# Altium schematic symbol library SchLib.SchLib: 133 symbols (part 1 of 2)
Pins are listed as number, name and electrical type; pins without a type are passive.

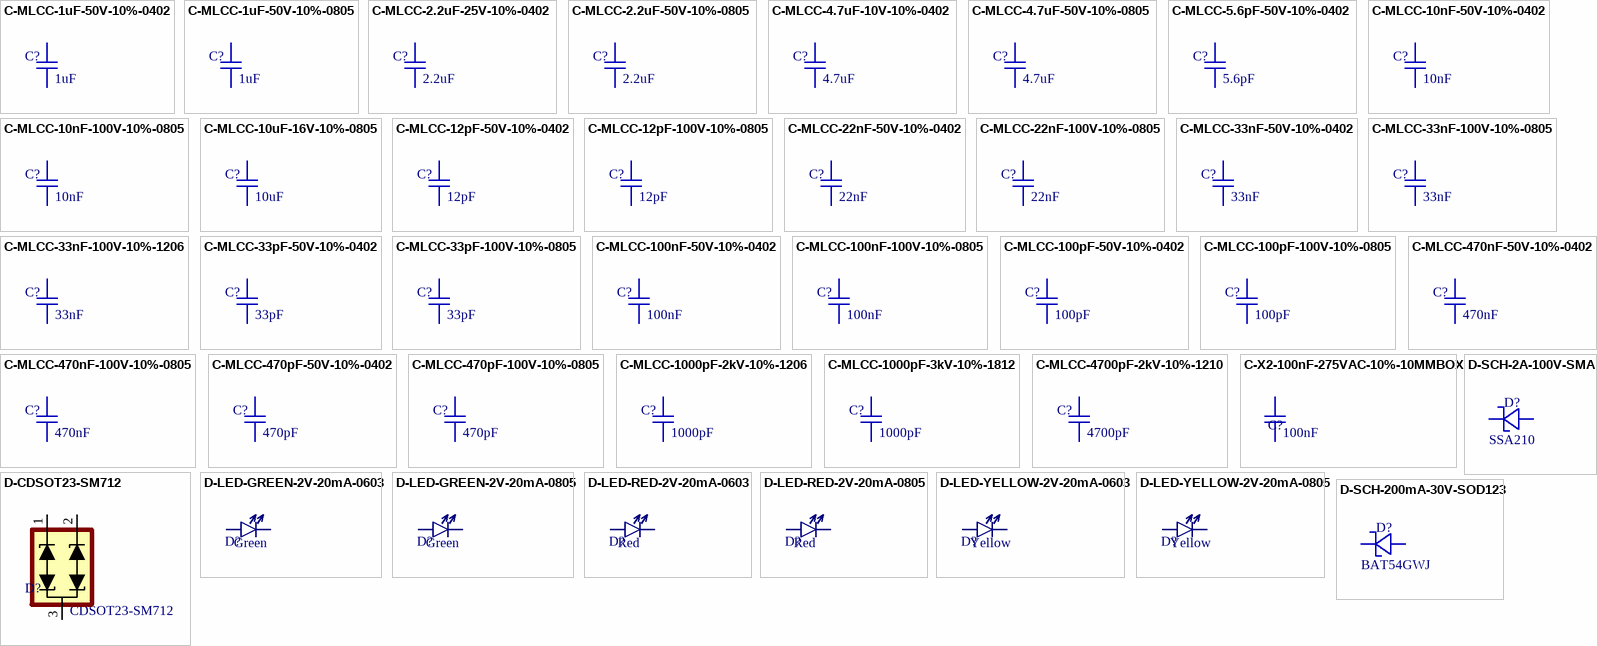
[diagram p0: symbols C-MLCC-1uF-50V-10%-0402 to D-SCH-200mA-30V-SOD123]

## C-MLCC-1uF-50V-10%-0402
designator C?, comment value 1uF  (hidden comment: Multilayer Ceramic Capacitors)
Multilayer Ceramic Capacitors MLCC - SMD/SMT 50V 1uF X5R 0402 10% HI CV; Part Number: CC0402KRX5R9BB105; Manufacturer: YAGEO; Mounting Type: SMT; Mouser Part #: 603-CC0402KX5R9BB105; Digikey Part #: 13-CC0402KRX5R9BB105CT-ND; JLCPCB Part #: C7500380
footprint CAPC1005N (Chip Capacitor, Body 1.0x0.5mm, IPC Medium Density)
pins: 1, 2

## C-MLCC-1uF-50V-10%-0805
designator C?, comment value 1uF  (hidden comment: Multilayer Ceramic Capacitors)
Multilayer Ceramic Capacitors MLCC - SMD/SMT 50V 1uF X7R 0805 10%; Part Number: CC0805KKX7R9BB105; Manufacturer: YAGEO; Mounting Type: SMT; Mouser Part #: 603-CC805KKX7R9BB105; Digikey Part #: 311-1886-1-ND; JLCPCB Part #: C91185
footprint CAPC2012N (Chip Capacitor, Body 2.0x1.3mm, IPC Medium Density)
pins: 1, 2

## C-MLCC-2.2uF-25V-10%-0402
designator C?, comment value 2.2uF  (hidden comment: Multilayer Ceramic Capacitors)
Multilayer Ceramic Capacitors MLCC - SMD/SMT 25V 2.2uF X5R 0402 10% HI CV; Part Number: CC0402KRX5R8BB225; Manufacturer: YAGEO; Mounting Type: SMT; Mouser Part #: 603-CC0402KRX5R8B225; Digikey Part #: 13-CC0402KRX5R8BB225CT-ND; JLCPCB Part #: C723363
footprint CAPC1005N (Chip Capacitor, Body 1.0x0.5mm, IPC Medium Density)
pins: 1, 2

## C-MLCC-2.2uF-50V-10%-0805
designator C?, comment value 2.2uF  (hidden comment: Multilayer Ceramic Capacitors)
Multilayer Ceramic Capacitors MLCC - SMD/SMT 50V 2.2uF X5R 0805 10%; Part Number: CC0805KKX5R9BB225; Manufacturer: YAGEO; Mounting Type: SMT; Mouser Part #: 603-CC805KKX5R9BB225; Digikey Part #: 311-1873-1-ND; JLCPCB Part #: C326581
footprint CAPC2012N (Chip Capacitor, Body 2.0x1.3mm, IPC Medium Density)
pins: 1, 2

## C-MLCC-4.7uF-10V-10%-0402
designator C?, comment value 4.7uF  (hidden comment: Multilayer Ceramic Capacitors)
Multilayer Ceramic Capacitors MLCC - SMD/SMT 10V 4.7uF X5R 0402 10% HI CV; Part Number: CC0402KRX5R6BB475; Manufacturer: YAGEO; Mounting Type: SMT; Mouser Part #: 603-CC0402KR5R6BB475; Digikey Part #: 13-CC0402KRX5R6BB475CT-ND; JLCPCB Part #: C326586
footprint CAPC1005N (Chip Capacitor, Body 1.0x0.5mm, IPC Medium Density)
pins: 1, 2

## C-MLCC-4.7uF-50V-10%-0805
designator C?, comment value 4.7uF  (hidden comment: Multilayer Ceramic Capacitors)
Multilayer Ceramic Capacitors MLCC - SMD/SMT 50V 4.7uF X5R 0805 10%; Part Number: CC0805KKX5R9BB475; Manufacturer: YAGEO; Mounting Type: SMT; Mouser Part #: 603-CC0805KKX59BB475; Digikey Part #: 13-CC0805KKX5R9BB475CT-ND; JLCPCB Part #: C2897302
footprint CAPC2012N (Chip Capacitor, Body 2.0x1.3mm, IPC Medium Density)
pins: 1, 2

## C-MLCC-5.6pF-50V-10%-0402
designator C?, comment value 5.6pF  (hidden comment: Multilayer Ceramic Capacitors)
Multilayer Ceramic Capacitors MLCC - SMD/SMT 50 V 5.6pF C0G 0402 Tol 0.1pF; Part Number: CC0402BRNPO9BN5R6; Manufacturer: YAGEO; Mounting Type: SMT; Mouser Part #: 603-CC402BRNPO9BN5R6; Digikey Part #: 311-1625-1-ND; JLCPCB Part #: C505468
footprint CAPC1005N (Chip Capacitor, Body 1.0x0.5mm, IPC Medium Density)
pins: 1, 2

## C-MLCC-10nF-50V-10%-0402
designator C?, comment value 10nF  (hidden comment: Multilayer Ceramic Capacitors)
Multilayer Ceramic Capacitors MLCC - SMD/SMT 50 V 0.01uF X7R 0402 10%; Part Number: CC0402KRX7R9BB103; Manufacturer: YAGEO; Mounting Type: SMT; Mouser Part #: 603-CC402KRX7R9BB103; Digikey Part #: 311-1349-1-ND; JLCPCB Part #: C60133
footprint CAPC1005N (Chip Capacitor, Body 1.0x0.5mm, IPC Medium Density)
pins: 1, 2

## C-MLCC-10nF-100V-10%-0805
designator C?, comment value 10nF  (hidden comment: Multilayer Ceramic Capacitors)
Multilayer Ceramic Capacitors MLCC - SMD/SMT 100 V 10nF X7R 0805 10%; Part Number: CC0805KRX7R0BB103; Manufacturer: YAGEO; Mounting Type: SMT; Mouser Part #: 603-CC805KRX7R0BB103; Digikey Part #: 311-1475-1-ND; JLCPCB Part #: C107135
footprint CAPC2012N (Chip Capacitor, Body 2.0x1.3mm, IPC Medium Density)
pins: 1, 2

## C-MLCC-10uF-16V-10%-0805
designator C?, comment value 10uF  (hidden comment: Multilayer Ceramic Capacitors)
Multilayer Ceramic Capacitors MLCC - SMD/SMT 16V 10uF X5R 0805 10%; Part Number: CC0805KKX5R7BB106; Manufacturer: YAGEO; Mounting Type: SMT; Mouser Part #: 603-CC805KKX5R7BB106; Digikey Part #: 311-1865-1-ND; JLCPCB Part #: C89827
footprint CAPC2012N (Chip Capacitor, Body 2.0x1.3mm, IPC Medium Density)
pins: 1, 2

## C-MLCC-12pF-50V-10%-0402
designator C?, comment value 12pF  (hidden comment: Multilayer Ceramic Capacitors)
Multilayer Ceramic Capacitors MLCC - SMD/SMT 50 V 12 pF C0G 0402 1%; Part Number: CC0402FRNPO9BN120; Manufacturer: YAGEO; Mounting Type: SMT; Mouser Part #: 603-CC402FRNPO9BN120; Digikey Part #: 311-1641-1-ND; JLCPCB Part #: C326662
footprint CAPC1005N (Chip Capacitor, Body 1.0x0.5mm, IPC Medium Density)
pins: 1, 2

## C-MLCC-12pF-100V-10%-0805
designator C?, comment value 12pF  (hidden comment: Multilayer Ceramic Capacitors)
Multilayer Ceramic Capacitors MLCC - SMD/SMT 100 V 12 pF C0G 0805 10%; Part Number: CC0805JRNPO0BN120; Manufacturer: YAGEO; Mounting Type: SMT; Mouser Part #: 603-CC805JRNPO0BN120; Digikey Part #: 311-4218-1-ND; JLCPCB Part #: C576951
footprint CAPC2012N (Chip Capacitor, Body 2.0x1.3mm, IPC Medium Density)
pins: 1, 2

## C-MLCC-22nF-50V-10%-0402
designator C?, comment value 22nF  (hidden comment: Multilayer Ceramic Capacitors)
Multilayer Ceramic Capacitors MLCC - SMD/SMT 50 V 0.022uF X7R 0402 10%; Part Number: CC0402KRX7R9BB223; Manufacturer: YAGEO; Mounting Type: SMT; Mouser Part #: 603-CC402KRX7R9BB223; Digikey Part #: 311-1722-1-ND; JLCPCB Part #: C107026
footprint CAPC1005N (Chip Capacitor, Body 1.0x0.5mm, IPC Medium Density)
pins: 1, 2

## C-MLCC-22nF-100V-10%-0805
designator C?, comment value 22nF  (hidden comment: Multilayer Ceramic Capacitors)
Multilayer Ceramic Capacitors MLCC - SMD/SMT 100 V 0.022 uF X7R 0805 10%; Part Number: CC0805KRX7R0BB223; Manufacturer: YAGEO; Mounting Type: SMT; Mouser Part #: 603-CC805KRX7R0BB223; Digikey Part #: 311-1473-1-ND; JLCPCB Part #: C107137
footprint CAPC2012N (Chip Capacitor, Body 2.0x1.3mm, IPC Medium Density)
pins: 1, 2

## C-MLCC-33nF-50V-10%-0402
designator C?, comment value 33nF  (hidden comment: Multilayer Ceramic Capacitors)
Multilayer Ceramic Capacitors MLCC - SMD/SMT 50V 0.033uF X7R 0402 10%; Part Number: CC0402KRX7R9BB333; Manufacturer: YAGEO; Mounting Type: SMT; Mouser Part #: 603-CC0402KRX79BB333; Digikey Part #: 13-CC0402KRX7R9BB333CT-ND; JLCPCB Part #: C106862
footprint CAPC1005N (Chip Capacitor, Body 1.0x0.5mm, IPC Medium Density)
pins: 1, 2

## C-MLCC-33nF-100V-10%-0805
designator C?, comment value 33nF  (hidden comment: Multilayer Ceramic Capacitors)
Multilayer Ceramic Capacitors MLCC - SMD/SMT 100 V 0.033 uF X7R 0805 10%; Part Number: CC0805KKX7R0BB333; Manufacturer: YAGEO; Mounting Type: SMT; Mouser Part #: 603-CC805KKX7R0BB333; Digikey Part #: 311-1875-1-ND; JLCPCB Part #: C327114
footprint CAPC2012N (Chip Capacitor, Body 2.0x1.3mm, IPC Medium Density)
pins: 1, 2

## C-MLCC-33nF-100V-10%-1206
designator C?, comment value 33nF  (hidden comment: Multilayer Ceramic Capacitors)
Multilayer Ceramic Capacitors MLCC - SMD/SMT 100 V 0.033 uF X7R 1206 10%; Part Number: CC1206KRX7R0BB333; Manufacturer: YAGEO; Mounting Type: SMT; Mouser Part #: 603-CC126KRX7R0BB333; Digikey Part #: 311-1988-1-ND; JLCPCB Part #: C113901
footprint CAPC3216N (Chip Capacitor, Body 3.2x1.6mm, IPC Medium Density)
pins: 1, 2

## C-MLCC-33pF-50V-10%-0402
designator C?, comment value 33pF  (hidden comment: Multilayer Ceramic Capacitors)
Multilayer Ceramic Capacitors MLCC - SMD/SMT 50 V 33 pF C0G 0402 1%; Part Number: CC0402KRNPO9BN330; Manufacturer: YAGEO; Mounting Type: SMT; Mouser Part #: 603-CC0402KRNP9BN330; Digikey Part #: 13-CC0402KRNPO9BN330CT-ND; JLCPCB Part #: C107005
footprint CAPC1005N (Chip Capacitor, Body 1.0x0.5mm, IPC Medium Density)
pins: 1, 2

## C-MLCC-33pF-100V-10%-0805
designator C?, comment value 33pF  (hidden comment: Multilayer Ceramic Capacitors)
Multilayer Ceramic Capacitors MLCC - SMD/SMT 100 V 33 pF C0G 0805 10%; Part Number: CC0805JRNPO0BN330; Manufacturer: YAGEO; Mounting Type: SMT; Mouser Part #: 603-CC805JRNPO0BN330; Digikey Part #: 311-1844-1-ND; JLCPCB Part #: C309485
footprint CAPC2012N (Chip Capacitor, Body 2.0x1.3mm, IPC Medium Density)
pins: 1, 2

## C-MLCC-100nF-50V-10%-0402
designator C?, comment value 100nF  (hidden comment: Multilayer Ceramic Capacitors)
Multilayer Ceramic Capacitors MLCC - SMD/SMT 50 V 0.1uF X7R 0402 10%; Part Number: CC0402KRX5R9BB104; Manufacturer: YAGEO; Mounting Type: SMT; Mouser Part #: 603-CC402KRX5R9BB104; Digikey Part #: 311-3342-1-ND; JLCPCB Part #: C105882
footprint CAPC1005N (Chip Capacitor, Body 1.0x0.5mm, IPC Medium Density)
pins: 1, 2

## C-MLCC-100nF-100V-10%-0805
designator C?, comment value 100nF  (hidden comment: Multilayer Ceramic Capacitors)
Multilayer Ceramic Capacitors MLCC - SMD/SMT 100 V 0.1uF X7R 0805 10%; Part Number: CC0805KKX7R0BB104; Manufacturer: YAGEO; Mounting Type: SMT; Mouser Part #: 603-CC805KKX7R0BB104; Digikey Part #: 311-2083-1-ND; JLCPCB Part #: C106243
footprint CAPC2012N (Chip Capacitor, Body 2.0x1.3mm, IPC Medium Density)
pins: 1, 2

## C-MLCC-100pF-50V-10%-0402
designator C?, comment value 100pF  (hidden comment: Multilayer Ceramic Capacitors)
Multilayer Ceramic Capacitors MLCC - SMD/SMT 50 V 100pF X7R 0402 10%; Part Number: CC0402KRX7R9BB101; Manufacturer: YAGEO; Mounting Type: SMT; Mouser Part #: 603-CC402KRX7R9BB101; Digikey Part #: 311-1419-1-ND; JLCPCB Part #: C281751
footprint CAPC1005N (Chip Capacitor, Body 1.0x0.5mm, IPC Medium Density)
pins: 1, 2

## C-MLCC-100pF-100V-10%-0805
designator C?, comment value 100pF  (hidden comment: Multilayer Ceramic Capacitors)
Multilayer Ceramic Capacitors MLCC - SMD/SMT 100 V 100pF NPO 0805 10%; Part Number: CC0805KRNPO0BN101; Manufacturer: YAGEO; Mounting Type: SMT; Mouser Part #: 603-CC0805KRNP0BN101; Digikey Part #: 13-CC0805KRNPO0BN101CT-ND; JLCPCB Part #: C1853015
footprint CAPC2012N (Chip Capacitor, Body 2.0x1.3mm, IPC Medium Density)
pins: 1, 2

## C-MLCC-470nF-50V-10%-0402
designator C?, comment value 470nF  (hidden comment: Multilayer Ceramic Capacitors)
Multilayer Ceramic Capacitors MLCC - SMD/SMT 50V 0.47uF X5R 0402 10%; Part Number: CC0402KRX5R9BB474; Manufacturer: YAGEO; Mounting Type: SMT; Mouser Part #: 603-CC0402KRX59BB474; Digikey Part #: 13-CC0402KRX5R9BB474CT-ND; JLCPCB Part #: C513552
footprint CAPC1005N (Chip Capacitor, Body 1.0x0.5mm, IPC Medium Density)
pins: 1, 2

## C-MLCC-470nF-100V-10%-0805
designator C?, comment value 470nF  (hidden comment: Multilayer Ceramic Capacitors)
Multilayer Ceramic Capacitors MLCC - SMD/SMT 100 V 470nF X7R 0805 10%; Part Number: CC0805KKX7R0BB474; Manufacturer: YAGEO; Mounting Type: SMT; Mouser Part #: 603-CC0805KX7R0BB474; Digikey Part #: 13-CC0805KKX7R0BB474CT-ND; JLCPCB Part #: C596323
footprint CAPC2012N (Chip Capacitor, Body 2.0x1.3mm, IPC Medium Density)
pins: 1, 2

## C-MLCC-470pF-50V-10%-0402
designator C?, comment value 470pF  (hidden comment: Multilayer Ceramic Capacitors)
Multilayer Ceramic Capacitors MLCC - SMD/SMT 50 V 470pF X7R 0402 10%; Part Number: CC0402KRX7R9BB471; Manufacturer: YAGEO; Mounting Type: SMT; Mouser Part #: 603-CC402KRX7R9BB471; Digikey Part #: 311-1028-1-ND; JLCPCB Part #: C106207
footprint CAPC1005N (Chip Capacitor, Body 1.0x0.5mm, IPC Medium Density)
pins: 1, 2

## C-MLCC-470pF-100V-10%-0805
designator C?, comment value 470pF  (hidden comment: Multilayer Ceramic Capacitors)
Multilayer Ceramic Capacitors MLCC - SMD/SMT 100 V 470pF NPO 0805 10%; Part Number: CC0805KRNPO0BN101; Manufacturer: YAGEO; Mounting Type: SMT; Mouser Part #: 603-CC805KRNPO0BN471; Digikey Part #: 311-4294-1-ND; JLCPCB Part #: C527228
footprint CAPC2012N (Chip Capacitor, Body 2.0x1.3mm, IPC Medium Density)
pins: 1, 2

## C-MLCC-1000pF-2kV-10%-1206
designator C?, comment value 1000pF  (hidden comment: Multilayer Ceramic Capacitors)
Multilayer Ceramic Capacitors MLCC - SMD/SMT 2kV 1000pF X7R 1206 10%; Part Number: CC1206KKX7RDBB102; Manufacturer: YAGEO; Mounting Type: SMT; Mouser Part #: 603-CC206KKX7RDBB102; Digikey Part #: 311-1487-1-ND; JLCPCB Part #: C23631
footprint CAPC3216N (Chip Capacitor, Body 3.2x1.6mm, IPC Medium Density)
pins: 1, 2

## C-MLCC-1000pF-3kV-10%-1812
designator C?, comment value 1000pF  (hidden comment: Multilayer Ceramic Capacitors)
Multilayer Ceramic Capacitors MLCC - SMD/SMT 3kV 1000pF X7R 1812 10%; Part Number: CC1812KKX7REBB102; Manufacturer: YAGEO; Mounting Type: SMT; Mouser Part #: 603-CC812KKX7REBB102; Digikey Part #: 311-4568-1-ND; JLCPCB Part #: C577351
footprint CAPC4532N (Chip Capacitor, Body 4.5x3.2mm, IPC Medium Density)
pins: 1, 2

## C-MLCC-4700pF-2kV-10%-1210
designator C?, comment value 4700pF  (hidden comment: Multilayer Ceramic Capacitors)
Multilayer Ceramic Capacitors MLCC - SMD/SMT 2kV 4700pF X7R 1210 10%; Part Number: 1210B472K202CT; Manufacturer: Walsin; Mounting Type: SMT; Mouser Part #: 791-1210B472K202CT; Digikey Part #: 1292-1210B472K202CTTR-ND; JLCPCB Part #: C2918562
footprint CAPC3225N (Chip Capacitor, Body 3.2x2.5mm, IPC Medium Density)
pins: 1, 2

## C-X2-100nF-275VAC-10%-10MMBOX
designator C?, comment value 100nF  (hidden comment: Safety Capacitor)
Safety Capacitors WCAP-FTX2 20mm Lead 0.1uF 10% 275VAC; Manufacturer: Wurth Elektronik; Part Number: 890324023023CS; Mounting Type: THT; Mouser Part #: 710-890324023023CS; Digikey Part #: 732-890324023023CS-ND; JLCPCB Part #: C105759
footprint CAPPR10P13X13X7N (Radial Leaded Capacitor, pitch 10mm, Box Type)
pins: 1, 2

## D-CDSOT23-SM712
designator D?, comment Part Number: CDSOT23-SM712  (hidden comment: ESD Protection Diodes)
ESD Protection Diodes / TVS Diodes SOT-23 7V400W Low Capacitance; Manufacturer: Bourns; Mounting Type: SMT; Mouser Part #: 652-CDSOT23-SM712; Digikey Part #: CDSOT23-SM712CT-ND; JLCPCB Part #: C5122012
footprint SOT95P230X117-3N
pins: 1, 2, 3

## D-LED-GREEN-2V-20mA-0603
designator D?, comment value Green  (hidden comment: Single Color LED)
Standard Single Color LEDs 0603 Green; Part Number: LTST-C190KGKT; Manufacturer: LITEON; Mounting Type: SMT; Mouser Part #: 859-LTST-C190KGKT; Digikey Part #: 160-1435-1-ND; JLCPCB Part #: C125094
footprint LEDC1608X80N_GREEN
pins: A, C

## D-LED-GREEN-2V-20mA-0805
designator D?, comment value Green  (hidden comment: Single Color LED)
Standard Single Color LEDs 0805 Green; Part Number: LTST-C170KGKT; Manufacturer: LITEON; Mounting Type: SMT; Mouser Part #: 859-LTST-C170KGKT; Digikey Part #: 160-1414-1-ND; JLCPCB Part #: C98221
footprint LEDC2012X70N_GREEN
pins: A, C

## D-LED-RED-2V-20mA-0603
designator D?, comment value Red  (hidden comment: Single Color LED)
Standard Single Color LEDs 0603 Red; Part Number: LTST-C190KRKT; Manufacturer: LITEON; Mounting Type: SMT; Mouser Part #: 859-LTST-C190KRKT; Digikey Part #: 160-1436-1-ND; JLCPCB Part #: C94869
footprint LEDC1608X80N_RED
pins: A, C

## D-LED-RED-2V-20mA-0805
designator D?, comment value Red  (hidden comment: Single Color LED)
Standard Single Color LEDs 0805 Red; Part Number: LTST-C170KRKT; Manufacturer: LITEON; Mounting Type: SMT; Mouser Part #: 859-LTST-C170KRKT; Digikey Part #: 160-1415-1-ND; JLCPCB Part #: C94868
footprint LEDC2012X70N_RED
pins: A, C

## D-LED-YELLOW-2V-20mA-0603
designator D?, comment value Yellow  (hidden comment: Single Color LED)
Standard Single Color LEDs 0603 Yellow; Part Number: LTST-C190KSKT; Manufacturer: LITEON; Mounting Type: SMT; Mouser Part #: 859-LTST-C190KSKT; Digikey Part #: 160-1437-1-ND; JLCPCB Part #: C125095
footprint LEDC1608X80N_YELLOW
pins: A, C

## D-LED-YELLOW-2V-20mA-0805
designator D?, comment value Yellow  (hidden comment: Single Color LED)
Standard Single Color LEDs 0805 Yellow; Part Number: LTST-C170KSKT; Manufacturer: LITEON; Mounting Type: SMT; Mouser Part #: 859-LTST-C170KSKT; Digikey Part #: 160-1416-1-ND; JLCPCB Part #: C125091
footprint LEDC2012X70N_YELLOW
pins: A, C

## D-SCH-2A-100V-SMA
designator D?, comment Part Number: SSA210  (hidden comment: Schottky Diodes)
Schottky Diodes & Rectifiers 2A 100V SMA; Manufacturer: onsemi; Mounting Type: SMT; Mouser Part #: 512-SSA210; Digikey Part #: SSA210CT-ND; JLCPCB Part #: C14996
footprint DIOM5026X229N (SMA (DO-214AC) Bi-Directional)
pins: A, C

## D-SCH-200mA-30V-SOD123
designator D?, comment Part Number: BAT54GWJ  (hidden comment: Schottky Diodes)
Schottky Diodes & Rectifiers 200mA 30V SOD123; Manufacturer: onsemi; Mounting Type: SMT; Mouser Part #: 841-BAT54GWJ; Digikey Part #: 1727-7328-1-ND; JLCPCB Part #: C549277
footprint SOD3705X110-2N
pins: A, C

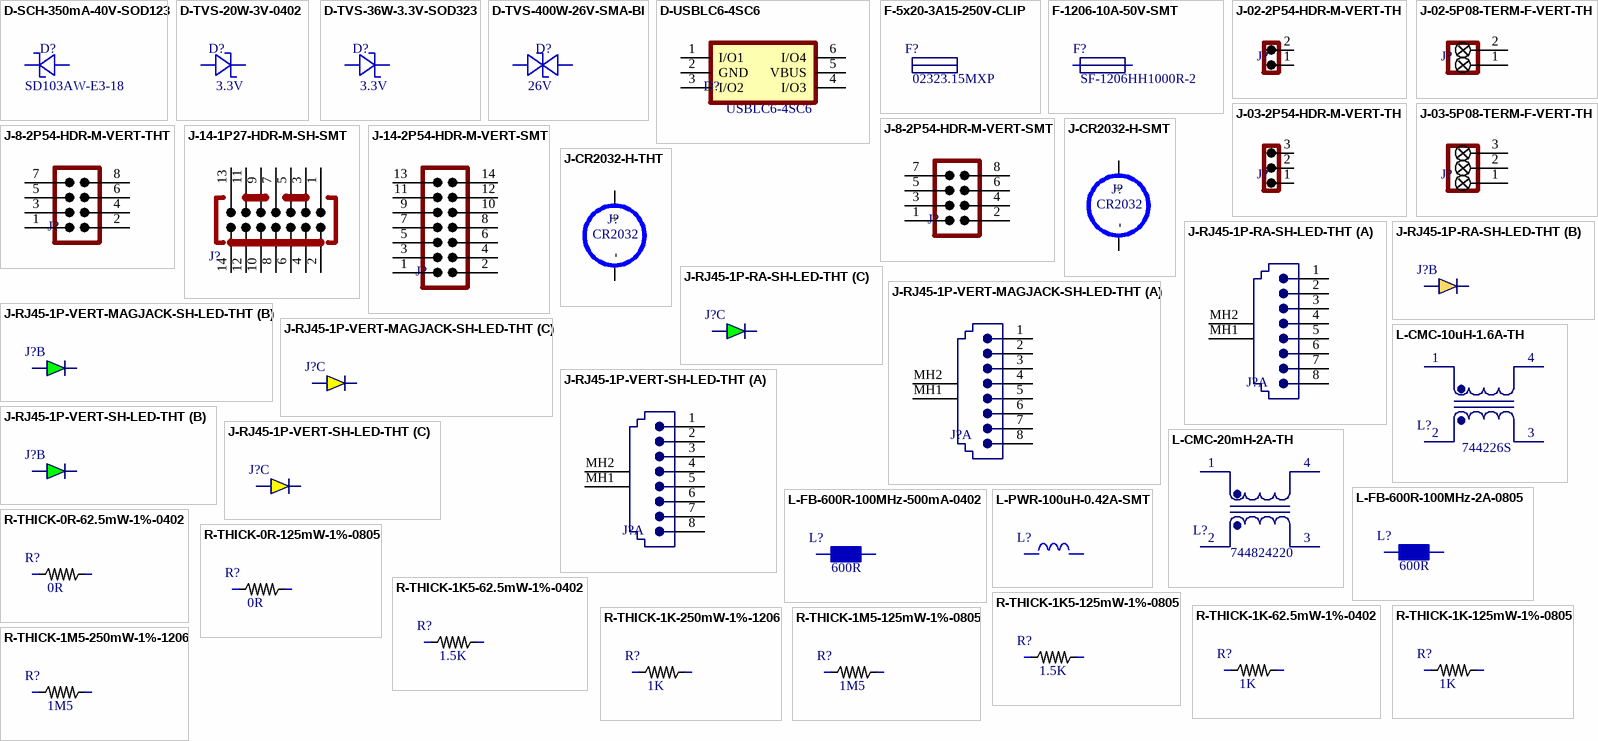
[diagram p1: symbols D-SCH-350mA-40V-SOD123 to R-THICK-1M5-250mW-1%-1206]

## D-SCH-350mA-40V-SOD123
designator D?, comment Part Number: SD103AW-E3-18  (hidden comment: Schottky Diodes)
Schottky Diodes & Rectifiers 350mA 40V SOD123; Manufacturer: Vishay Semiconductors; Mounting Type: SMT; Mouser Part #: 78-SD103AW-E3-18; Digikey Part #: SD103AW-E3-18CT-ND; JLCPCB Part #: C181204
footprint SOD3705X110-2N
pins: A, C

## D-TVS-20W-3V-0402
designator D?, comment value 3.3V  (hidden comment: ESD Protection Diodes)
ESD Protection Diodes / TVS Diodes Single-Line Low Cap ESD TVS 0201; Manufacturer: STMicroelectronics; Part Number: ESDALC6V1-1U2; Mounting Type: SMT; Mouser Part #: 511-ESDALC6V1-1U2; Digikey Part #: 497-8752-1-ND; JLCPCB Part #: C1974498
footprint ESDALC6V11U2
pins: A, C

## D-TVS-36W-3.3V-SOD323
designator D?, comment value 3.3V  (hidden comment: ESD Protection Diodes)
ESD Protection Diodes / TVS Diodes UNIDIRECTIONAL 3.3V ESD PR; Manufacturer: onsemi; Part Number: ESD7351HT1G; Mounting Type: SMT; Mouser Part #: 863-ESD7351HT1G; Digikey Part #: ESD7351HT1GOSCT-ND; JLCPCB Part #: C19829399
footprint SOD2512X110N
pins: A, C

## D-TVS-400W-26V-SMA-BI
designator D?, comment value 26V  (hidden comment: ESD Protection Diodes)
ESD Protection Diodes / TVS Diodes 400W 26V 5% Bi-Directional; Part Number: SMAJ26CA; Manufacturer: Littelfuse; Mounting Type: SMT; Mouser Part #: 576-SMAJ26CA; Digikey Part #: 18-SMAJ26CACT-ND; JLCPCB Part #: C173517
footprint DIOM5026X229N_NP (SMA (DO-214AC) Bi-Directional)
pins: 1, 2

## D-USBLC6-4SC6
designator D?, comment Part Number: USBLC6-4SC6  (hidden comment: ESD Protection Diodes)
ESD Protection Diodes / TVS Diodes Low Cap ESD Protect; Manufacturer: STMicroelectronics; Mounting Type: SMT; Mouser Part #: 511-USBLC6-4SC6; Digikey Part #: 497-4492-1-ND; JLCPCB Part #: C558419
footprint SOT95P280X145-6N
pins: 1 I/O1, 2 GND, 3 I/O2, 4 I/O3, 5 VBUS, 6 I/O4

## F-5x20-3A15-250V-CLIP
designator F?, comment Part Number: 02323.15MXP  (hidden comment: Cartridge Fuse)
Cartridge Fuses 250V 3.15A Medium Acting; Manufacturer: Littelfuse; Mounting Type: NA; Mouser Part #: 576-02323.15MXP; Digikey Part #: 02323.15MXP-ND; JLCPCB Part #: C2997160

## F-1206-10A-50V-SMT
designator F?, comment Part Number: SF-1206HH1000R-2  (hidden comment: Cartridge Fuse)
Surface Mount Fuses 1206 high-current met-foil. 10A; Manufacturer: Bourns; Mounting Type: SMT; Mouser Part #: 652-SF-1206HH1000R-2; Digikey Part #: 118-SF-1206HH1000R-2CT-ND; JLCPCB Part #: C136354
footprint RESC3216N (Chip Resistor, Body 3.2x1.6mm, IPC Medium Density)
pins: 1, 2

## J-02-2P54-HDR-M-VERT-TH
designator J?, comment Male straight header  (value not drawn)
Male straight header, 1 row, 2 positions, 2.54mm pitch, through-hole; Part Number: 10129378-902001BLF; Manufacturer: Amphenol FCI; Mounting Type: THT; Mouser Part #: 649-1012937890201BLF; Digikey Part #: 10129378-902001BLF-ND; JLCPCB Part #: C3324910
footprint CONH_ML254P-2N
pins: 1, 2

## J-02-5P08-TERM-F-VERT-TH
designator J?, comment Terminal Blocks  (value not drawn)
Pluggable Terminal Blocks 2 Pos 5.08mm pitch Through Hole Header; Manufacturer: Adam Tech; Part Number: EBA-02-D-BU-01; Mouser Part #: 737-EBA-02-D-BU-01; Mounting Type: THT; Digikey Part #: ED2609-ND; JLCPCB Part #: C8475
footprint CONB_FIX508P-2N (Pluggable Terminal Blocks, 2pos, pitch 5.08mm)
pins: 1, 2

## J-03-2P54-HDR-M-VERT-TH
designator J?, comment Male straight header  (value not drawn)
Male straight header, 1 row, 3 positions, 2.54mm pitch, through-hole; Part Number: 10129378-903001BLF; Manufacturer: Amphenol FCI; Mounting Type: THT; Mouser Part #: 649-1012937890301BLF; Digikey Part #: 10129378-903001BLF-ND; JLCPCB Part #: C49257
footprint CONH_ML254P-3N (Vertical male header, 3 pos, 2.54mm pitch)
pins: 1, 2, 3

## J-03-5P08-TERM-F-VERT-TH
designator J?, comment Terminal Blocks  (value not drawn)
Pluggable Terminal Blocks 3 Pos 5.08mm pitch Through Hole Header; Manufacturer: Adam Tech; Part Number: EBA-03-D-BU-01; Mouser Part #: 737-EBA-03-D-BU-01; Mounting Type: THT; Digikey Part #: ED2610-ND; JLCPCB Part #: C8483
footprint CONB_FIX508P-3N (Pluggable Terminal Blocks, 3pos, pitch 5.08mm)
pins: 1, 2, 3

## J-8-2P54-HDR-M-VERT-SMT
designator J?, comment Male straight header  (value not drawn)
Male straight header, 2 row, 8 positions, 2.54mm pitch, SMD; Part Number: 95278-101-08LF; Manufacturer: Amphenol FCI; Mounting Type: SMT; Mouser Part #: 649-95278-101-08LF; Digikey Part #: 609-5752-ND; JLCPCB Part #: C192300
footprint CONH_ML254P-SMT-8N
pins: 1, 2, 3, 4, 5, 6, 7, 8

## J-8-2P54-HDR-M-VERT-THT
designator J?, comment Male straight header  (value not drawn)
Male straight header, 2 row, 8 positions, 2.54mm pitch, THT; Part Number: 5-146256-4; Manufacturer: TE Connectivity; Mounting Type: THT; Mouser Part #: 571-5-146256-4; Digikey Part #: A121467-ND; JLCPCB Part #: C358693
footprint CONH_ML254P-8N
pins: 1, 2, 3, 4, 5, 6, 7, 8

## J-14-1P27-HDR-M-SH-SMT
designator J?, comment Male straight header  (value not drawn)
Male straight header, 2 row, 14 positions, 1.27mm pitch, SMD; Manufacturer: SAMTEC; Part Number: FTSH-107-01-F-DV-K; Mounting Type: SMT; Mouser Part #: 200-FTSH10701FDVK; Digikey Part #: 612-FTSH-107-01-F-DV-K-ND; JLCPCB Part #: C7465995
footprint CONH_ML127P-14N
pins: 1, 2, 3, 4, 5, 6, 7, 8, 9, 10, 11, 12, 13, 14

## J-14-2P54-HDR-M-VERT-SMT
designator J?, comment Male straight header  (value not drawn)
Male straight header, 2 row, 14 positions, 2.54mm pitch, SMD; Part Number: 95278-101-14LF; Manufacturer: Amphenol FCI; Mounting Type: SMT; Mouser Part #: 649-95278-101-14LF; Digikey Part #: 95278-101-14LF-ND; JLCPCB Part #: C84004
footprint CONH_ML254P-14N
pins: 1, 2, 3, 4, 5, 6, 7, 8, 9, 10, 11, 12, 13, 14

## J-CR2032-H-SMT
designator J?, comment Cell Battery Holders  (value not drawn)
Coin Cell Battery Holders CR2032; Part Number: 1061; Manufacturer: Keystone Electronics; Mounting Type: SMT; Mouser Part #: 534-1061; Digikey Part #: 36-1061-ND; JLCPCB Part #: C238070
footprint CONB_BH_CR2032-2N
pins: 1 -, 2 +
text: CR2032

## J-CR2032-H-THT
designator J?, comment Cell Battery Holders  (value not drawn)
Coin Cell Battery Holders CR2032; Part Number: BH-50B-1; Manufacturer: Adam Tech; Mounting Type: THT; Mouser Part #: 737-BH-50B-1; Digikey Part #: 2057-BH-50B-1-ND; JLCPCB Part #: C48687404
footprint CONB_BH_CR2032-3N
pins: 1 -, 2 +
text: CR2032

## J-RJ45-1P-RA-SH-LED-THT
designator J?, comment Jack Ethernet  (value not drawn)
Modular Ethernet Connector Jack (Female) 1x1 Shielded Through Hole With LEDs; Manufacturer: Phoenix Contact; Part Number: 1149867; Mounting Type: THT; Mouser Part #: 51-1149867; Digikey Part #: 277-1149867-ND; JLCPCB Part #: C3178499
footprint RJ45-8P8C-RA-THT
part A pins: 1, 2, 3, 4, 5, 6, 7, 8, MH1, MH2
part B pins: 9, 10
part C pins: 11, 12

## J-RJ45-1P-VERT-MAGJACK-SH-LED-THT
designator J?, comment Magnetic Jack Ethernet  (value not drawn)
Modular Ethernet Connector Jack (Female) 1x1 Shielded Through Hole With LEDs With Magnetics; Manufacturer: HANRUN; Part Number: HY951180A; Mounting Type: THT; Mouser Part #: 815-ARJ07-111071A; Digikey Part #: 535-12607-ND; JLCPCB Part #: C34677
footprint RJ45-8P8C-VERT-THT-MAGJACK
part A pins: 1, 2, 3, 4, 5, 6, 7, 8, MH1, MH2
part B pins: 9, 10
part C pins: 11, 12

## J-RJ45-1P-VERT-SH-LED-THT
designator J?, comment Jack Ethernet  (value not drawn)
Modular Ethernet Connector Jack (Female) 1x1 Shielded Through Hole With LEDs; Manufacturer: Amphenol; Part Number: RJHSE3381A1; Mounting Type: THT; Mouser Part #: 523-RJHSE3381A1; Digikey Part #: RJHSE3381A1-ND; JLCPCB Part #: C3179089
footprint RJ45-8P8C-VERT-THT
part A pins: 1, 2, 3, 4, 5, 6, 7, 8, MH1, MH2
part B pins: 9, 10
part C pins: 11, 12

## L-CMC-10uH-1.6A-TH
designator L?, comment Part Number: 744226S  (hidden comment: Common Mode Chokes)
Common Mode Chokes / Filters WE-SL2 SMD Sectional 2x10uH 1600mA; Manufacturer: Wurth Elektronik; Mounting Type: SMT; Mouser Part #: 710-744226S; Digikey Part #: 732-1476-1-ND; JLCPCB Part #: C878356
footprint INDC6X9.2-4N (Common Mode Chokes Width 6mm, Length 9.2mm, Height 5mm)
pins: 1, 2, 3, 4

## L-CMC-20mH-2A-TH
designator L?, comment Part Number: 744824220  (hidden comment: Common Mode Chokes)
Common Mode Chokes / Filters WE-CMB Choke Type L 20mH 2A 220mOhm; Manufacturer: Wurth Elektronik; Mounting Type: THT; Mouser Part #: 710-744824220; Digikey Part #: 732-1453-ND; JLCPCB Part #: C7039144
footprint INDC18.5X27.5-4N
pins: 1, 2, 3, 4

## L-FB-600R-100MHz-2A-0805
designator L?, comment value 600R  (hidden comment: Ferrite Beads)
Ferrite Beads 600Ohm 2000mA Impedance@100MHz 0805; Manufacturer: Wurth Elektronik; Part Number: 742792040; Mounting Type: SMT; Mouser Part #: 710-742792040; Digikey Part #: 732-1620-1-ND; JLCPCB Part #: C2858468
footprint INDC2012N (Chip Inductor, Body 2.0x1.3mm, IPC Medium Density)
pins: 1, 2

## L-FB-600R-100MHz-500mA-0402
designator L?, comment value 600R  (hidden comment: Ferrite Beads)
Ferrite Beads 600 OHM 25% Alternate Sizing Guide Below; Manufacturer: Murata Electronics; Part Number: BLM15AX601SN1D; Mounting Type: SMT; Mouser Part #: 81-BLM15AX601SN1D; Digikey Part #: 490-5441-1-ND; JLCPCB Part #: C76886
footprint INDC1005N
pins: 1, 2

## L-PWR-100uH-0.42A-SMT
designator L?, comment Power Inductor  (value not drawn)
Power Inductors - SMD 100uH 0.42A 1.6Ohms; Manufacturer: Bourns; Part Number: SRN4018-101M; Value: 100uH; Mounting Type: SMT; Mouser Part #: 652-SRN4018-101M; Digikey Part #: SRN4018-101MCT-ND; JLCPCB Part #: C83471
footprint INDP4018220N
pins: 1, 2

## R-THICK-0R-62.5mW-1%-0402
designator R?, comment value 0R  (hidden comment: Thick Film Resistors)
Thick Film Resistors - SMD General Purpose Chip Resistor 0402, 0Ohms, 1%, 1/16W; Part Number: RC0402FR-070RL; Manufacturer: YAGEO; Mounting Type: SMT; Mouser Part #: 603-RC0402FR-070RL; Digikey Part #: 311-0.0LRCT-ND; JLCPCB Part #: C106231
footprint RESC1005N (Chip Resistor, Body 1.1x0.5mm, IPC Medium Density)
pins: 1, 2

## R-THICK-0R-125mW-1%-0805
designator R?, comment value 0R  (hidden comment: Thick Film Resistors)
Thick Film Resistors - SMD 0 Ohms 125 mW 0805 1%; Part Number: RC0805FR-070RL; Manufacturer: YAGEO; Mounting Type: SMT; Mouser Part #: 603-RC0805FR-070RL; Digikey Part #: 311-0.0CRCT-ND; JLCPCB Part #: C100045
footprint RESC2012N (Chip Resistor, Body 2.0x1.3mm, IPC Medium Density)
pins: 1, 2

## R-THICK-1K5-62.5mW-1%-0402
designator R?, comment value 1.5K  (hidden comment: Thick Film Resistors)
Thick Film Resistors - SMD General Purpose Chip Resistor 0402, 1.5kOhms, 1%, 1/16W; Part Number: RC0402FR-071K5L; Manufacturer: YAGEO; Mounting Type: SMT; Mouser Part #: 603-RC0402FR-071K5L; Digikey Part #: 311-1.50KLRCT-ND; JLCPCB Part #: C114759
footprint RESC1005N (Chip Resistor, Body 1.1x0.5mm, IPC Medium Density)
pins: 1, 2

## R-THICK-1K5-125mW-1%-0805
designator R?, comment value 1.5K  (hidden comment: Thick Film Resistors)
Thick Film Resistors - SMD 1.5 kOhms 125 mW 0805 1%; Part Number: RC0805FR-071K5L; Manufacturer: YAGEO; Mounting Type: SMT; Mouser Part #: 603-RC0805FR-071K5L; Digikey Part #: 311-1.50KCRCT-ND; JLCPCB Part #: C114555
footprint RESC2012N (Chip Resistor, Body 2.0x1.3mm, IPC Medium Density)
pins: 1, 2

## R-THICK-1K-62.5mW-1%-0402
designator R?, comment value 1K  (hidden comment: Thick Film Resistors)
Thick Film Resistors - SMD General Purpose Chip Resistor 0402, 1kOhms, 1%, 1/16W; Part Number: RC0402FR-071KL; Manufacturer: YAGEO; Mounting Type: SMT; Mouser Part #: 603-RC0402FR-071KL; Digikey Part #: 311-1.00KLRCT-ND; JLCPCB Part #: C106235
footprint RESC1005N (Chip Resistor, Body 1.1x0.5mm, IPC Medium Density)
pins: 1, 2

## R-THICK-1K-125mW-1%-0805
designator R?, comment value 1K  (hidden comment: Thick Film Resistors)
Thick Film Resistors - SMD General Purpose Chip Resistor 0805, 1kOhms, 1%, 1/8W; Part Number: RC0805FR-071KL; Manufacturer: YAGEO; Mounting Type: SMT; Mouser Part #: 603-RC0805FR-071KL; Digikey Part #: 311-1.00KCRCT-ND; JLCPCB Part #: C95781
footprint RESC2012N (Chip Resistor, Body 2.0x1.3mm, IPC Medium Density)
pins: 1, 2

## R-THICK-1K-250mW-1%-1206
designator R?, comment value 1K  (hidden comment: Thick Film Resistors)
Thick Film Resistors - SMD 1 kOhms 250 mW 1206 1%; Part Number: RC1206FR-071KL; Manufacturer: YAGEO; Mounting Type: SMT; Mouser Part #: 603-RC1206FR-071KL; Digikey Part #: 311-1.00KFRCT-ND; JLCPCB Part #: C131398
footprint RESC3216N (Chip Resistor, Body 3.2x1.6mm, IPC Medium Density)
pins: 1, 2

## R-THICK-1M5-125mW-1%-0805
designator R?, comment value 1M5  (hidden comment: Thick Film Resistors)
Thick Film Resistors - SMD General Purpose Chip Resistor 0805, 1.5MOhms, 1%, 1/8W; Part Number: RC0805FR-071M5L; Manufacturer: YAGEO; Mounting Type: SMT; Mouser Part #: 603-RC0805FR-071M5L; Digikey Part #: 311-1.50MCRCT-ND; JLCPCB Part #: C275642
footprint RESC2012N (Chip Resistor, Body 2.0x1.3mm, IPC Medium Density)
pins: 1, 2

## R-THICK-1M5-250mW-1%-1206
designator R?, comment value 1M5  (hidden comment: Thick Film Resistors)
Thick Film Resistors - SMD 1.5 MOhms 250 mW 1206 1%; Part Number: RC1206FR-071M5L; Manufacturer: YAGEO; Mounting Type: SMT; Mouser Part #: 603-RC1206FR-071M5L; Digikey Part #: 311-1.50MFRCT-ND; JLCPCB Part #: C137367
footprint RESC3216N (Chip Resistor, Body 3.2x1.6mm, IPC Medium Density)
pins: 1, 2

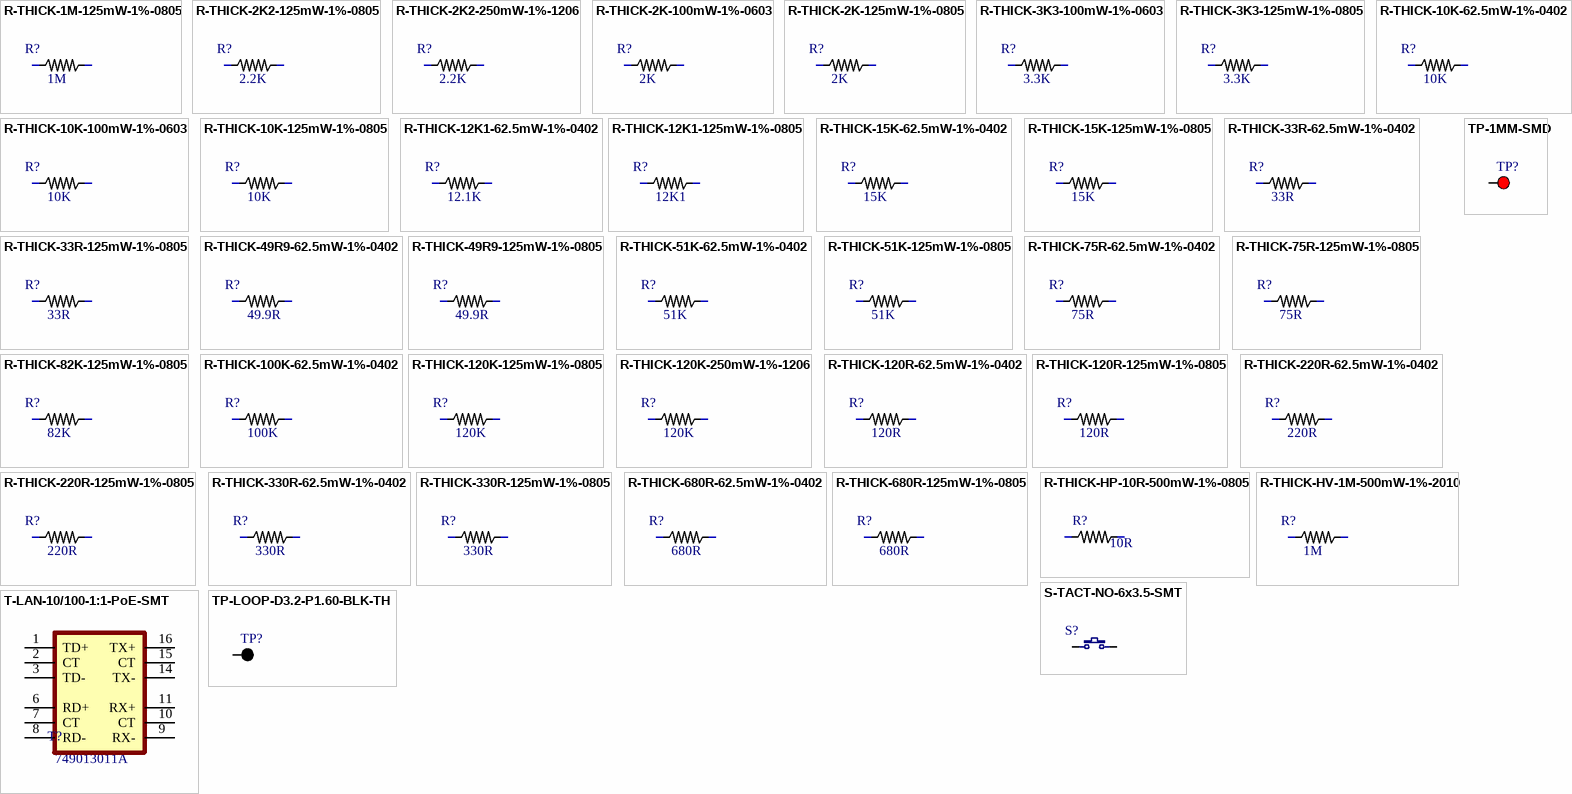
[diagram p2: symbols R-THICK-1M-125mW-1%-0805 to TP-LOOP-D3.2-P1.60-BLK-TH]

## R-THICK-1M-125mW-1%-0805
designator R?, comment value 1M  (hidden comment: Thick Film Resistors)
Thick Film Resistors - SMD General Purpose Chip Resistor 0805, 1MOhms, 1%, 1/8W; Part Number: RC0805FR-071ML; Manufacturer: YAGEO; Mounting Type: SMT; Mouser Part #: 603-RC0805FR-071ML; Digikey Part #: 311-1.00MCRCT-ND; JLCPCB Part #: C107700
footprint RESC2012N (Chip Resistor, Body 2.0x1.3mm, IPC Medium Density)
pins: 1, 2

## R-THICK-2K2-125mW-1%-0805
designator R?, comment value 2.2K  (hidden comment: Thick Film Resistors)
Thick Film Resistors - SMD General Purpose Chip Resistor 0805, 2.2kOhms, 1%, 1/8W; Part Number: RC0805FR-072K2L; Manufacturer: YAGEO; Mounting Type: SMT; Mouser Part #: 603-RC0805FR-072K2L; Digikey Part #: 311-2.20KCRCT-ND; JLCPCB Part #: C114561
footprint RESC2012N (Chip Resistor, Body 2.0x1.3mm, IPC Medium Density)
pins: 1, 2

## R-THICK-2K2-250mW-1%-1206
designator R?, comment value 2.2K  (hidden comment: Thick Film Resistors)
Thick Film Resistors - SMD 2.2 kOhms 250 mW 1206 1%; Part Number: RC1206FR-072K2L; Manufacturer: YAGEO; Mounting Type: SMT; Mouser Part #: 603-RC1206FR-072K2L; Digikey Part #: 311-2.20KFRCT-ND; JLCPCB Part #: C114933
footprint RESC3216N (Chip Resistor, Body 3.2x1.6mm, IPC Medium Density)
pins: 1, 2

## R-THICK-2K-100mW-1%-0603
designator R?, comment value 2K  (hidden comment: Thick Film Resistors)
Thick Film Resistors - SMD General Purpose Chip Resistor 0603, 2kOhms, 1%, 1/10W; Part Number: RC0603FR-072KL; Manufacturer: YAGEO; Mounting Type: SMT; Mouser Part #: 603-RC0603FR-072KL; Digikey Part #: 311-2.00KHRCT-ND; JLCPCB Part #: C105576
footprint RESC1608N (Chip Resistor, Body 1.6x0.8mm, IPC Medium Density)
pins: 1, 2

## R-THICK-2K-125mW-1%-0805
designator R?, comment value 2K  (hidden comment: Thick Film Resistors)
Thick Film Resistors - SMD 2 kOhms 125 mW 0805 1%; Part Number: RC0805FR-072KL; Manufacturer: YAGEO; Mounting Type: SMT; Mouser Part #: 603-RC0805FR-072KL; Digikey Part #: 311-2.00KCRCT-ND; JLCPCB Part #: C114572
footprint RESC2012N (Chip Resistor, Body 2.0x1.3mm, IPC Medium Density)
pins: 1, 2

## R-THICK-3K3-100mW-1%-0603
designator R?, comment value 3.3K  (hidden comment: Thick Film Resistors)
Thick Film Resistors - SMD General Purpose Chip Resistor 0603, 3.3kOhms, 1%, 1/10W; Part Number: RC0603FR-073K3L; Manufacturer: YAGEO; Mounting Type: SMT; Mouser Part #: 603-RC0603FR-073K3L; Digikey Part #: 311-3.30KHRCT-ND; JLCPCB Part #: C108078
footprint RESC1608N (Chip Resistor, Body 1.6x0.8mm, IPC Medium Density)
pins: 1, 2

## R-THICK-3K3-125mW-1%-0805
designator R?, comment value 3.3K  (hidden comment: Thick Film Resistors)
Thick Film Resistors - SMD 3.3 kOhms 125 mW 0805 1%; Part Number: RC0805FR-073K3L; Manufacturer: YAGEO; Mounting Type: SMT; Mouser Part #: 603-RC0805FR-073K3L; Digikey Part #: 311-3.30KCRCT-ND; JLCPCB Part #: C114531
footprint RESC2012N (Chip Resistor, Body 2.0x1.3mm, IPC Medium Density)
pins: 1, 2

## R-THICK-10K-62.5mW-1%-0402
designator R?, comment value 10K  (hidden comment: Thick Film Resistors)
Thick Film Resistors - SMD General Purpose Chip Resistor 0402, 10kOhms, 1%, 1/16W; Part Number: RC0402FR-0710KL; Manufacturer: YAGEO; Mounting Type: SMT; Mouser Part #: 603-RC0402FR-0710KL; Digikey Part #: 311-10.0KLRCT-ND; JLCPCB Part #: C60490
footprint RESC1005N (Chip Resistor, Body 1.1x0.5mm, IPC Medium Density)
pins: 1, 2

## R-THICK-10K-100mW-1%-0603
designator R?, comment value 10K  (hidden comment: Thick Film Resistors)
Thick Film Resistors - SMD General Purpose Chip Resistor 0603, 10kOhms, 1%, 1/10W; Part Number: RC0603FR-0710KL; Manufacturer: YAGEO; Mounting Type: SMT; Mouser Part #: 603-RC0603FR-0710KL; Digikey Part #: 311-10.0KHRCT-ND; JLCPCB Part #: C98220
footprint RESC1608N (Chip Resistor, Body 1.6x0.8mm, IPC Medium Density)
pins: 1, 2

## R-THICK-10K-125mW-1%-0805
designator R?, comment value 10K  (hidden comment: Thick Film Resistors)
Thick Film Resistors - SMD 10 kOhms 125 mW 0805 1%; Part Number: RC0805FR-0710KL; Manufacturer: YAGEO; Mounting Type: SMT; Mouser Part #: 603-RC0805FR-0710KL; Digikey Part #: 311-10.0KCRCT-ND; JLCPCB Part #: C84376
footprint RESC2012N (Chip Resistor, Body 2.0x1.3mm, IPC Medium Density)
pins: 1, 2

## R-THICK-12K1-62.5mW-1%-0402
designator R?, comment value 12.1K  (hidden comment: Thick Film Resistors)
Thick Film Resistors - SMD General Purpose Chip Resistor 0402, 12.1kOhms, 1%, 1/16W; Part Number: RC0402FR-0712K1L; Manufacturer: YAGEO; Mounting Type: SMT; Mouser Part #: 603-RC0402FR-0712K1L; Digikey Part #: 311-12.1KLRCT-ND; JLCPCB Part #: C132157
footprint RESC1005N (Chip Resistor, Body 1.1x0.5mm, IPC Medium Density)
pins: 1, 2

## R-THICK-12K1-125mW-1%-0805
designator R?, comment value 12K1  (hidden comment: Thick Film Resistors)
Thick Film Resistors - SMD 12.1 kOhms 125 mW 0805 1%; Part Number: RC0805FR-0712K1L; Manufacturer: YAGEO; Mounting Type: SMT; Mouser Part #: 603-RC0805FR-0712K1L; Digikey Part #: 311-12.1KCRCT-ND; JLCPCB Part #: C273811
footprint RESC2012N (Chip Resistor, Body 2.0x1.3mm, IPC Medium Density)
pins: 1, 2

## R-THICK-15K-62.5mW-1%-0402
designator R?, comment value 15K  (hidden comment: Thick Film Resistors)
Thick Film Resistors - SMD General Purpose Chip Resistor 0402, 15kOhms, 1%, 1/16W; Part Number: RC0402FR-0715KL; Manufacturer: YAGEO; Mounting Type: SMT; Mouser Part #: 603-RC0402FR-0715KL; Digikey Part #: 311-15.0KLRCT-ND; JLCPCB Part #: C114761
footprint RESC1005N (Chip Resistor, Body 1.1x0.5mm, IPC Medium Density)
pins: 1, 2

## R-THICK-15K-125mW-1%-0805
designator R?, comment value 15K  (hidden comment: Thick Film Resistors)
Thick Film Resistors - SMD 15 kOhms 125 mW 0805 1%; Part Number: RC0805FR-0715KL; Manufacturer: YAGEO; Mounting Type: SMT; Mouser Part #: 603-RC0805FR-0715KL; Digikey Part #: 311-15.0KCRTR-ND; JLCPCB Part #: C114559
footprint RESC2012N (Chip Resistor, Body 2.0x1.3mm, IPC Medium Density)
pins: 1, 2

## R-THICK-33R-62.5mW-1%-0402
designator R?, comment value 33R  (hidden comment: Thick Film Resistors)
Thick Film Resistors - SMD General Purpose Chip Resistor 0402, 33Ohms, 1%, 1/16W; Part Number: RC0402FR-0733RL; Manufacturer: YAGEO; Mounting Type: SMT; Mouser Part #: 603-RC0402FR-0733RL; Digikey Part #: 311-33.0LRCT-ND; JLCPCB Part #: C138002
footprint RESC1005N (Chip Resistor, Body 1.1x0.5mm, IPC Medium Density)
pins: 1, 2

## R-THICK-33R-125mW-1%-0805
designator R?, comment value 33R  (hidden comment: Thick Film Resistors)
Thick Film Resistors - SMD 33 Ohms 125 mW 0805 1%; Part Number: RC0805FR-0733RL; Manufacturer: YAGEO; Mounting Type: SMT; Mouser Part #: 603-RC0805FR-0733RL; Digikey Part #: 311-33.0CRCT-ND; JLCPCB Part #: C126353
footprint RESC2012N (Chip Resistor, Body 2.0x1.3mm, IPC Medium Density)
pins: 1, 2

## R-THICK-49R9-62.5mW-1%-0402
designator R?, comment value 49.9R  (hidden comment: Thick Film Resistors)
Thick Film Resistors - SMD General Purpose Chip Resistor 0402, 49.9Ohms, 1%, 1/16W; Part Number: RC0402FR-0749R9L; Manufacturer: YAGEO; Mounting Type: SMT; Mouser Part #: 603-RC0402FR-0749R9L; Digikey Part #: 311-49.9LRCT-ND; JLCPCB Part #: C87044
footprint RESC1005N (Chip Resistor, Body 1.1x0.5mm, IPC Medium Density)
pins: 1, 2

## R-THICK-49R9-125mW-1%-0805
designator R?, comment value 49.9R  (hidden comment: Thick Film Resistors)
Thick Film Resistors - SMD 49.9 Ohms 125 mW 0805 1%; Part Number: RC0805FR-0749R9L; Manufacturer: YAGEO; Mounting Type: SMT; Mouser Part #: 603-RC0805FR-0749R9L; Digikey Part #: 311-49.9CRCT-ND; JLCPCB Part #: C132320
footprint RESC2012N (Chip Resistor, Body 2.0x1.3mm, IPC Medium Density)
pins: 1, 2

## R-THICK-51K-62.5mW-1%-0402
designator R?, comment value 51K  (hidden comment: Thick Film Resistors)
Thick Film Resistors - SMD General Purpose Chip Resistor 0402, 51kOhms, 1%, 1/16W; Part Number: RC0402FR-0751KL; Manufacturer: YAGEO; Mounting Type: SMT; Mouser Part #: 603-RC0402FR-0751KL; Digikey Part #: 311-51.0KLRCT-ND; JLCPCB Part #: C107229
footprint RESC1005N (Chip Resistor, Body 1.1x0.5mm, IPC Medium Density)
pins: 1, 2

## R-THICK-51K-125mW-1%-0805
designator R?, comment value 51K  (hidden comment: Thick Film Resistors)
Thick Film Resistors - SMD 51 kOhms 125 mW 0805 1%; Part Number: RC0805FR-0751KL; Manufacturer: YAGEO; Mounting Type: SMT; Mouser Part #: 603-RC0805FR-0751KL; Digikey Part #: 311-51.0KCRCT-ND; JLCPCB Part #: C107233
footprint RESC2012N (Chip Resistor, Body 2.0x1.3mm, IPC Medium Density)
pins: 1, 2

## R-THICK-75R-62.5mW-1%-0402
designator R?, comment value 75R  (hidden comment: Thick Film Resistors)
Thick Film Resistors - SMD General Purpose Chip Resistor 0402, 75Ohms, 1%, 1/16W; Part Number: RC0402FR-0775RL; Manufacturer: YAGEO; Mounting Type: SMT; Mouser Part #: 603-RC0402FR-0775RL; Digikey Part #: 311-75.0LRCT-ND; JLCPCB Part #: C114757
footprint RESC1005N (Chip Resistor, Body 1.1x0.5mm, IPC Medium Density)
pins: 1, 2

## R-THICK-75R-125mW-1%-0805
designator R?, comment value 75R  (hidden comment: Thick Film Resistors)
Thick Film Resistors - SMD 75 Ohms 125 mW 0805 1%; Part Number: RC0805FR-0775RL; Manufacturer: YAGEO; Mounting Type: SMT; Mouser Part #: 603-RC0805FR-0775RL; Digikey Part #: 311-75.0CRCT-ND; JLCPCB Part #: C141697
footprint RESC2012N (Chip Resistor, Body 2.0x1.3mm, IPC Medium Density)
pins: 1, 2

## R-THICK-82K-125mW-1%-0805
designator R?, comment value 82K  (hidden comment: Thick Film Resistors)
Thick Film Resistors - SMD General Purpose Chip Resistor 0805, 82 kOhms, 1%, 1/8W; Part Number: RC0805FR-0782KL; Manufacturer: YAGEO; Mounting Type: SMT; Mouser Part #: 603-RC0805FR-0782KL; Digikey Part #: 311-82.0KCRCT-ND; JLCPCB Part #: C137489
footprint RESC2012N (Chip Resistor, Body 2.0x1.3mm, IPC Medium Density)
pins: 1, 2

## R-THICK-100K-62.5mW-1%-0402
designator R?, comment value 100K  (hidden comment: Thick Film Resistors)
Thick Film Resistors - SMD General Purpose Chip Resistor 0402, 100kOhms, 1%, 1/16W; Part Number: RC0402FR-07100KL; Manufacturer: YAGEO; Mounting Type: SMT; Mouser Part #: 603-RC0402FR-07100KL; Digikey Part #: 311-100KLRCT-ND; JLCPCB Part #: C60491
footprint RESC1005N (Chip Resistor, Body 1.1x0.5mm, IPC Medium Density)
pins: 1, 2

## R-THICK-120K-125mW-1%-0805
designator R?, comment value 120K  (hidden comment: Thick Film Resistors)
Thick Film Resistors - SMD General Purpose Chip Resistor 0805, 120kOhms, 1%, 1/8W; Part Number: RC0805FR-07120KL; Manufacturer: YAGEO; Mounting Type: SMT; Mouser Part #: 603-RC0805FR-07120KL; Digikey Part #: 311-120KCRCT-ND; JLCPCB Part #: C114524
footprint RESC2012N (Chip Resistor, Body 2.0x1.3mm, IPC Medium Density)
pins: 1, 2

## R-THICK-120K-250mW-1%-1206
designator R?, comment value 120K  (hidden comment: Thick Film Resistors)
Thick Film Resistors - SMD 120 kOhms 250 mW 1206 1%; Part Number: RC1206FR-07120KL; Manufacturer: YAGEO; Mounting Type: SMT; Mouser Part #: 603-RC1206FR-07120KL; Digikey Part #: 311-120KFRCT-ND; JLCPCB Part #: C163387
footprint RESC3216N (Chip Resistor, Body 3.2x1.6mm, IPC Medium Density)
pins: 1, 2

## R-THICK-120R-62.5mW-1%-0402
designator R?, comment value 120R  (hidden comment: Thick Film Resistors)
Thick Film Resistors - SMD General Purpose Chip Resistor 0402, 120Ohms, 1%, 1/16W; Part Number: RC0402FR-07120RL; Manufacturer: YAGEO; Mounting Type: SMT; Mouser Part #: 603-RC0402FR-07120RL; Digikey Part #: 311-120LRCT-ND; JLCPCB Part #: C114758
footprint RESC1005N (Chip Resistor, Body 1.1x0.5mm, IPC Medium Density)
pins: 1, 2

## R-THICK-120R-125mW-1%-0805
designator R?, comment value 120R  (hidden comment: Thick Film Resistors)
Thick Film Resistors - SMD 120 Ohms 125 mW 0805 1%; Part Number: RC0805FR-07120RL; Manufacturer: YAGEO; Mounting Type: SMT; Mouser Part #: 603-RC0805FR-07120RL; Digikey Part #: 311-120CRCT-ND; JLCPCB Part #: C114245
footprint RESC2012N (Chip Resistor, Body 2.0x1.3mm, IPC Medium Density)
pins: 1, 2

## R-THICK-220R-62.5mW-1%-0402
designator R?, comment value 220R  (hidden comment: Thick Film Resistors)
Thick Film Resistors - SMD General Purpose Chip Resistor 0402, 220Ohms, 1%, 1/16W; Part Number: RC0402FR-07220RL; Manufacturer: YAGEO; Mounting Type: SMT; Mouser Part #: 603-RC0402FR-07220RL; Digikey Part #: 311-220LRCT-ND; JLCPCB Part #: C112291
footprint RESC1005N (Chip Resistor, Body 1.1x0.5mm, IPC Medium Density)
pins: 1, 2

## R-THICK-220R-125mW-1%-0805
designator R?, comment value 220R  (hidden comment: Thick Film Resistors)
Thick Film Resistors - SMD 220 Ohms 125 mW 0805 1%; Part Number: RC0805FR-07220RL; Manufacturer: YAGEO; Mounting Type: SMT; Mouser Part #: 603-RC0805FR-07220RL; Digikey Part #: 311-220CRCT-ND; JLCPCB Part #: C114519
footprint RESC2012N (Chip Resistor, Body 2.0x1.3mm, IPC Medium Density)
pins: 1, 2

## R-THICK-330R-62.5mW-1%-0402
designator R?, comment value 330R  (hidden comment: Thick Film Resistors)
Thick Film Resistors - SMD General Purpose Chip Resistor 0402, 330Ohms, 1%, 1/16W; Part Number: RC0402FR-07330RL; Manufacturer: YAGEO; Mounting Type: SMT; Mouser Part #: 603-RC0402FR-07330RL; Digikey Part #: 311-330LRCT-ND; JLCPCB Part #: C105875
footprint RESC1005N (Chip Resistor, Body 1.1x0.5mm, IPC Medium Density)
pins: 1, 2

## R-THICK-330R-125mW-1%-0805
designator R?, comment value 330R  (hidden comment: Thick Film Resistors)
Thick Film Resistors - SMD 330 Ohms 125 mW 0805 1%; Part Number: RC0805FR-07330RL; Manufacturer: YAGEO; Mounting Type: SMT; Mouser Part #: 603-RC0805FR-07330RL; Digikey Part #: 311-330CRCT-ND; JLCPCB Part #: C105878
footprint RESC2012N (Chip Resistor, Body 2.0x1.3mm, IPC Medium Density)
pins: 1, 2

## R-THICK-680R-62.5mW-1%-0402
designator R?, comment value 680R  (hidden comment: Thick Film Resistors)
Thick Film Resistors - SMD General Purpose Chip Resistor 0402, 680Ohms, 1%, 1/16W; Part Number: RC0402FR-07680RL; Manufacturer: YAGEO; Mounting Type: SMT; Mouser Part #: 603-RC0402FR-07680RL; Digikey Part #: 311-680LRCT-ND; JLCPCB Part #: C137948
footprint RESC1005N (Chip Resistor, Body 1.1x0.5mm, IPC Medium Density)
pins: 1, 2

## R-THICK-680R-125mW-1%-0805
designator R?, comment value 680R  (hidden comment: Thick Film Resistors)
Thick Film Resistors - SMD 680 Ohms 125 mW 0805 1%; Part Number: RC0805FR-07680RL; Manufacturer: YAGEO; Mounting Type: SMT; Mouser Part #: 603-RC0805FR-07680RL; Digikey Part #: 311-680CRCT-ND; JLCPCB Part #: C114549
footprint RESC2012N (Chip Resistor, Body 2.0x1.3mm, IPC Medium Density)
pins: 1, 2

## R-THICK-HP-10R-500mW-1%-0805
designator R?, comment value 10R  (hidden comment: Thick Film Resistors)
Thick Film Resistors - SMD High Power Chip Resistor 0805, 10Ohms, 1%, 1/2W; Part Number: CRCW080510R0FKEAHP; Manufacturer: Vishay; Mounting Type: SMT; Mouser Part #: 71-CRCW080510R0FKEAH; Digikey Part #: 541-10.0TCT-ND; JLCPCB Part #: C844598
footprint RESC2012N (Chip Resistor, Body 2.0x1.3mm, IPC Medium Density)
pins: 1, 2

## R-THICK-HV-1M-500mW-1%-2010
designator R?, comment value 1M  (hidden comment: Thick Film Resistors)
Thick Film Resistors - SMD 1 MOhms 500 mW 2010 1%; Part Number: CRMV2010AF1M00FKEF; Manufacturer: Vishay; Mounting Type: SMT; Mouser Part #: 71-CRMV2010AF1M00FKF; Digikey Part #: 3579-CRMV2010AF1M00FKEFCT-ND; JLCPCB Part #: C304379
footprint RESC5025N (Chip Resistor, Body 5.0x2.5mm, IPC Medium Density)
pins: 1, 2

## S-TACT-NO-6x3.5-SMT
designator S?, comment Tactile Switches  (value not drawn)
Tactile Switches SMD OFF - (ON); Manufacturer: TE Connectivity; Part Number: FSMSM; Mounting Type: SMT; Mouser Part #: 506-FSMSM; Digikey Part #: 450-1140-ND; JLCPCB Part #: C3012022
footprint PKG3.5X6-2N
pins: 1, 2

## T-LAN-10/100-1:1-PoE-SMT
designator T?, comment Part Number: 749013011A  (hidden comment: WE-LAN 10/100 Base-T Transformer)
Audio Transformers / Signal Transformers WE-LAN 10/100 Base-T SMD 1 Port Transfrmr; Manufacturer: Wurth Elektronik; Mounting Type: SMT; Mouser Part #: 710-749013011A; Digikey Part #: 732-7063-1-ND; JLCPCB Part #: C19725172
footprint XFMR12.2X9.5-16
pins: 1 TD+, 2 CT, 3 TD-, 6 RD+, 7 CT, 8 RD-, 9 RX-, 10 CT, 11 RX+, 14 TX-, 15 CT, 16 TX+

## TP-1MM-SMD
designator TP?, comment Test point  (value not drawn)  (no BOM)
Test point, 1mm, exposed pad; Mounting Type: SMD; JLCPCB Part #: C5199810
footprint TP-1MM
pins: 1

## TP-LOOP-D3.2-P1.60-BLK-TH
designator TP?, comment Test point  (value not drawn)
Test point black, Mtg Hole 1.6, loop 3.2mm; Part Number: 5006; Manufacturer: Keystone Electronics; Mounting Type: THT; Mouser Part #: 534-5006; Digikey Part #: 36-5006-ND; JLCPCB Part #: C5199801
footprint TPH1.6D3.2BLK (Test point Mtg. Hole 1.6, loop 3.2)
pins: 1

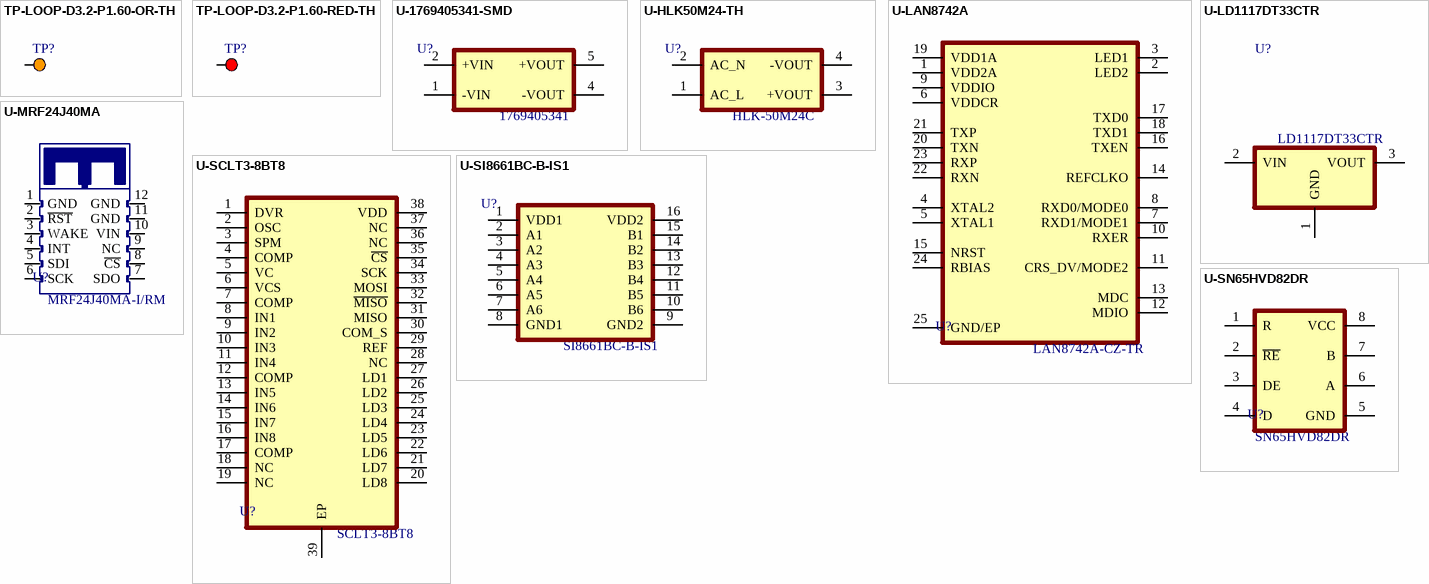
[diagram p3: symbols TP-LOOP-D3.2-P1.60-OR-TH to U-SN65HVD82DR]

## TP-LOOP-D3.2-P1.60-OR-TH
designator TP?, comment Test point  (value not drawn)
Test point orange, Mtg Hole 1.6, loop 3.2mm; Part Number: 5008; Manufacturer: Keystone Electronics; Mounting Type: THT; Mouser Part #: 534-5008; Digikey Part #: 36-5008-ND; JLCPCB Part #: C5277087
footprint TPH1.6D3.2OR (Test point Mtg. Hole 1.6, loop 3.2)
pins: 1

## TP-LOOP-D3.2-P1.60-RED-TH
designator TP?, comment Test point  (value not drawn)
Test point red, Mtg Hole 1.6, loop 3.2mm; Part Number: 5005; Manufacturer: Keystone Electronics; Mounting Type: THT; Mouser Part #: 534-5005; Digikey Part #: 36-5005-ND; JLCPCB Part #: C5199810
footprint TPH1.6D3.2RED (Test point Mtg. Hole 1.6, loop 3.2)
pins: 1

## U-1769405341-SMD
designator U?, comment Part Number: 1769405341  (hidden comment: Isolated DC/DC Converter)
Isolated DC/DC Converters - SMD WPME-FISM SMT-8 Modu 24Vin 5Vout 2W 3kV; Manufacturer: Wurth Elektronik; Mounting Type: SMT; Mouser Part #: 710-1769405341; Digikey Part #: 732-1769405341CT-ND; JLCPCB Part #: C6978530
footprint PKG10.8X12.8-5N (DC/DC Converters 24Vin 5Vout 2W 3kV)
pins: 1 -VIN, 2 +VIN, 4 -VOUT, 5 +VOUT

## U-HLK50M24-TH
designator U?, comment Part Number: HLK-50M24C  (hidden comment: AC/DC Power Supply Module)
50W Ultra small series power module. Input Voltage 85/265VAC, Output Voltage 24V, 50W, 2A; Manufacturer: Hi-Link; Mounting Type: THT; Mouser Part #: NA; Digikey Part #: NA; JLCPCB Part #: NA
footprint PKG33.5X57.5-4N (50W Step Down Mini Power Supply Module Converter)
pins: 1 AC_L, 2 AC_N, 3 +VOUT, 4 -VOUT

## U-LAN8742A
designator U?, comment Part Number: LAN8742A-CZ-TR  (hidden comment: Ethernet PHY)
Ethernet PHY transceiver 10/100-Mbps; Manufacturer: Microchip; Mounting Type: SMT; Mouser Part #: 579-LAN8742A-CZ-TR; Digikey Part #: LAN8742A-CZ-CT-ND; JLCPCB Part #: C621424
footprint QFN50P400X400X100-25N-D
pins: 1 VDD2A, 2 LED2, 3 LED1, 4 XTAL2, 5 XTAL1, 6 VDDCR, 7 RXD1/MODE1, 8 RXD0/MODE0, 9 VDDIO, 10 RXER, 11 CRS_DV/MODE2, 12 MDIO, 13 MDC, 14 REFCLKO, 15 NRST, 16 TXEN, 17 TXD0, 18 TXD1, 19 VDD1A, 20 TXN, 21 TXP, 22 RXN, 23 RXP, 24 RBIAS, 25 GND/EP

## U-LD1117DT33CTR
designator U?, comment Part Number: LD1117DT33CTR  (hidden comment: LDO Voltage Regulators)
LDO Voltage Regulators 3.3V 0.8A Positive; Manufacturer: STMicroelectronics; Mounting Type: SMT; Mouser Part #: 511-LD1117DT33C-TR; Digikey Part #: 497-1235-1-ND; JLCPCB Part #: C36395
footprint TO252P170-3N (TO252-3 (DPAK))
pins: 1 GND, 2 VIN, 3 VOUT

## U-MRF24J40MA
designator U?, comment Part Number: MRF24J40MA-I/RM  (hidden comment: RF Transceiver Module)
Zigbee Modules - 802.15.4 2.4GHz IEEE 802.15.4 Transceiver Module; Manufacturer: Microchip; Mounting Type: SMT; Mouser Part #: 579-MRF24J40MA-I/RM; Digikey Part #: MRF24J40MA-I/RM-ND; JLCPCB Part #: C641083
footprint PKG1100X700-12N
pins: 1 GND, 2 ~{RST}, 3 WAKE, 4 INT, 5 SDI, 6 SCK, 7 SDO, 8 ~{CS}, 9 NC, 10 VIN, 11 GND, 12 GND